# Altium integrated library Diode - TVS.IntLib: 371 symbols (part 6 of 6)
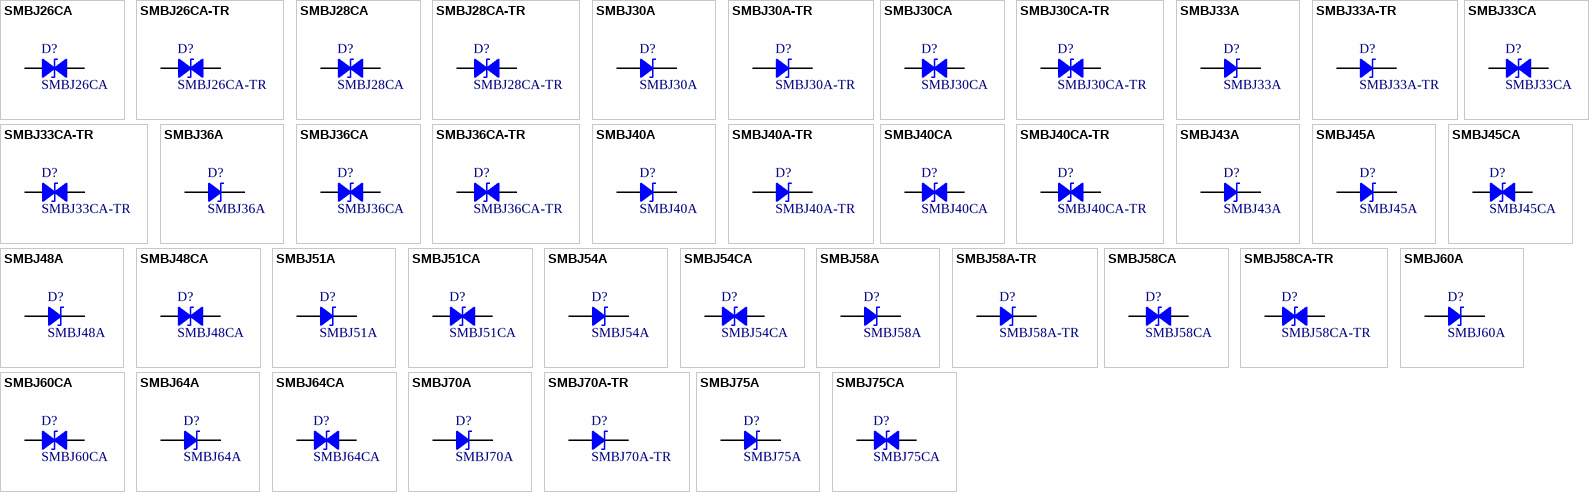
[diagram p14: symbols SMBJ26CA to SMBJ75CA]

## SMBJ58A
designator D?
TVS DIODE 58VWM 93.6VC DO214AA; Manufacturer: Bourns Inc.; Type: Zener; Unidirectional Channels: 1; Power - Peak Pulse: 600W; Current - Peak Pulse: 6.5A; Voltage (Clamping): 93.6V; Voltage (Breakdown): 64.4V; Voltage (Reverse Standoff): 58V; Part Number: SMBJ58A; PartId: 14760; Supplier 1: Digi-Key; Supplier Part Number 1: SMBJ58ABTR-ND; ComponentLink1Description: Datasheet; ComponentLink1URL: http://www.bourns.com/docs/Product-Datasheets/SMBJ.pdf; ComponentLink2Description: Digi-Key Listing; ComponentLink2URL: https://www.digikey.com/product-detail/en/bourns-inc/SMBJ58A/SMBJ58ABTR-ND/2254603; Operating Temperature: -55C ~ 150C (TJ); Price: 0.1001; Device Package: DO-214AA, SMB
footprint BOURNS DO214AA SMB
pins: 1, 2

## SMBJ58A-TR
designator D?
TVS DIODE 58VWM 121VC SMB; Manufacturer: STMicroelectronics; Type: Zener; Unidirectional Channels: 1; Power - Peak Pulse: 600W; Current - Peak Pulse: 33A (8/20us); Voltage (Clamping): 121V; Voltage (Breakdown): 64.4V; Voltage (Reverse Standoff): 58V; Part Number: SMBJ58A-TR; PartId: 14646; Supplier 1: Digi-Key; Supplier Part Number 1: 497-15659-2-ND; ComponentLink1Description: Datasheet; ComponentLink1URL: http://www2.st.com/content/ccc/resource/technical/document/datasheet/19/78/91/39/07/cd/40/65/CD00001366.pdf/files/CD00001366.pdf/_jcr_content/translations/en.CD00001366.pdf; ComponentLink2Description: Digi-Key Listing; ComponentLink2URL: https://www.digikey.com/product-detail/en/stmicroelectronics/SMBJ58A-TR/497-15659-2-ND/1039146; Operating Temperature: -55C ~ 150C (TJ); Price: 0.09; Device Package: DO-214AA, SMB
footprint ST DO214AA SMB
pins: 1, 2

## SMBJ58CA
designator D?
TVS DIODE 58VWM 93.6VC DO214AA; Manufacturer: Bourns Inc.; Type: Zener; Bidirectional Channels: 1; Power - Peak Pulse: 600W; Current - Peak Pulse: 6.5A; Voltage (Clamping): 93.6V; Voltage (Breakdown): 64.4V; Voltage (Reverse Standoff): 58V; Part Number: SMBJ58CA; PartId: 14736; Supplier 1: Digi-Key; Supplier Part Number 1: SMBJ58CABTR-ND; ComponentLink1Description: Datasheet; ComponentLink1URL: http://www.bourns.com/docs/Product-Datasheets/SMBJ.pdf; ComponentLink2Description: Digi-Key Listing; ComponentLink2URL: https://www.digikey.com/product-detail/en/bourns-inc/SMBJ58CA/SMBJ58CABTR-ND/2254595; Operating Temperature: -55C ~ 150C (TJ); Price: 0.1091; Device Package: DO-214AA, SMB
footprint BOURNS DO214AA SMB
pins: 1, 2

## SMBJ58CA-TR
designator D?
TVS DIODE 58VWM 121VC DO214AA; Manufacturer: STMicroelectronics; Type: Zener; Bidirectional Channels: 1; Power - Peak Pulse: 600W; Current - Peak Pulse: 33A (8/20us); Voltage (Clamping): 121V; Voltage (Breakdown): 64.4V; Voltage (Reverse Standoff): 58V; Part Number: SMBJ58CA-TR; PartId: 14661; Supplier 1: Digi-Key; Supplier Part Number 1: 497-3143-2-ND; ComponentLink1Description: Datasheet; ComponentLink1URL: http://www2.st.com/content/ccc/resource/technical/document/datasheet/19/78/91/39/07/cd/40/65/CD00001366.pdf/files/CD00001366.pdf/_jcr_content/translations/en.CD00001366.pdf; ComponentLink2Description: Digi-Key Listing; ComponentLink2URL: https://www.digikey.com/product-detail/en/stmicroelectronics/SMBJ58CA-TR/497-3143-2-ND/654461; Operating Temperature: -55C ~ 150C (TJ); Price: 0.0954; Device Package: DO-214AA, SMB
footprint ST DO214AA SMB
pins: 1, 2

## SMBJ60A
designator D?
TVS DIODE 60VWM 96.8VC DO214AA; Manufacturer: Bourns Inc.; Type: Zener; Unidirectional Channels: 1; Power - Peak Pulse: 600W; Current - Peak Pulse: 6.2A; Voltage (Clamping): 96.8V; Voltage (Breakdown): 66.7V; Voltage (Reverse Standoff): 60V; Part Number: SMBJ60A; PartId: 14772; Supplier 1: Digi-Key; Supplier Part Number 1: SMBJ60ABTR-ND; ComponentLink1Description: Datasheet; ComponentLink1URL: http://www.bourns.com/docs/Product-Datasheets/SMBJ.pdf; ComponentLink2Description: Digi-Key Listing; ComponentLink2URL: https://www.digikey.com/product-detail/en/bourns-inc/SMBJ60A/SMBJ60ABTR-ND/2254725; Operating Temperature: -55C ~ 150C (TJ); Price: 0.1001; Device Package: DO-214AA, SMB
footprint BOURNS DO214AA SMB
pins: 1, 2

## SMBJ60CA
designator D?
TVS DIODE 60VWM 96.8VC DO214AA; Manufacturer: Bourns Inc.; Type: Zener; Bidirectional Channels: 1; Power - Peak Pulse: 600W; Current - Peak Pulse: 6.2A; Voltage (Clamping): 96.8V; Voltage (Breakdown): 66.7V; Voltage (Reverse Standoff): 60V; Part Number: SMBJ60CA; PartId: 14738; Supplier 1: Digi-Key; Supplier Part Number 1: SMBJ60CABTR-ND; ComponentLink1Description: Datasheet; ComponentLink1URL: http://www.bourns.com/docs/Product-Datasheets/SMBJ.pdf; ComponentLink2Description: Digi-Key Listing; ComponentLink2URL: https://www.digikey.com/product-detail/en/bourns-inc/SMBJ60CA/SMBJ60CABTR-ND/2254539; Operating Temperature: -55C ~ 150C (TJ); Price: 0.1091; Device Package: DO-214AA, SMB
footprint BOURNS DO214AA SMB
pins: 1, 2

## SMBJ64A
designator D?
TVS DIODE 64VWM 103VC DO214AA; Manufacturer: Bourns Inc.; Type: Zener; Unidirectional Channels: 1; Power - Peak Pulse: 600W; Current - Peak Pulse: 5.9A; Voltage (Clamping): 103V; Voltage (Breakdown): 71.1V; Voltage (Reverse Standoff): 64V; Part Number: SMBJ64A; PartId: 14782; Supplier 1: Digi-Key; Supplier Part Number 1: SMBJ64ABTR-ND; ComponentLink1Description: Datasheet; ComponentLink1URL: http://www.bourns.com/docs/Product-Datasheets/SMBJ.pdf; ComponentLink2Description: Digi-Key Listing; ComponentLink2URL: https://www.digikey.com/product-detail/en/bourns-inc/SMBJ64A/SMBJ64ABTR-ND/2254590; Operating Temperature: -55C ~ 150C (TJ); Price: 0.1001; Device Package: DO-214AA, SMB
footprint BOURNS DO214AA SMB
pins: 1, 2

## SMBJ64CA
designator D?
TVS DIODE 64VWM 103VC DO214AA; Manufacturer: Bourns Inc.; Type: Zener; Bidirectional Channels: 1; Power - Peak Pulse: 600W; Current - Peak Pulse: 5.9A; Voltage (Clamping): 103V; Voltage (Breakdown): 71.1V; Voltage (Reverse Standoff): 64V; Part Number: SMBJ64CA; PartId: 14735; Supplier 1: Digi-Key; Supplier Part Number 1: SMBJ64CABTR-ND; ComponentLink1Description: Datasheet; ComponentLink1URL: http://www.bourns.com/docs/Product-Datasheets/SMBJ.pdf; ComponentLink2Description: Digi-Key Listing; ComponentLink2URL: https://www.digikey.com/product-detail/en/bourns-inc/SMBJ64CA/SMBJ64CABTR-ND/2254583; Operating Temperature: -55C ~ 150C (TJ); Price: 0.1091; Device Package: DO-214AA, SMB
footprint BOURNS DO214AA SMB
pins: 1, 2

## SMBJ70A
designator D?
TVS DIODE 70VWM 113VC DO214AA; Manufacturer: Bourns Inc.; Type: Zener; Unidirectional Channels: 1; Power - Peak Pulse: 600W; Current - Peak Pulse: 5.3A; Voltage (Clamping): 113V; Voltage (Breakdown): 77.8V; Voltage (Reverse Standoff): 70V; Part Number: SMBJ70A; PartId: 14779; Supplier 1: Digi-Key; Supplier Part Number 1: SMBJ70ABTR-ND; ComponentLink1Description: Datasheet; ComponentLink1URL: http://www.bourns.com/docs/Product-Datasheets/SMBJ.pdf; ComponentLink2Description: Digi-Key Listing; ComponentLink2URL: https://www.digikey.com/product-detail/en/bourns-inc/SMBJ70A/SMBJ70ABTR-ND/2254582; Operating Temperature: -55C ~ 150C (TJ); Price: 0.1001; Device Package: DO-214AA, SMB
footprint BOURNS DO214AA SMB
pins: 1, 2

## SMBJ70A-TR
designator D?
TVS DIODE 70VWM 146VC SMB; Manufacturer: STMicroelectronics; Type: Zener; Unidirectional Channels: 1; Power - Peak Pulse: 600W; Current - Peak Pulse: 27A (8/20us); Voltage (Clamping): 146V; Voltage (Breakdown): 77.8V; Voltage (Reverse Standoff): 70V; Part Number: SMBJ70A-TR; PartId: 14638; Supplier 1: Digi-Key; Supplier Part Number 1: 497-4294-2-ND; ComponentLink1Description: Datasheet; ComponentLink1URL: http://www2.st.com/content/ccc/resource/technical/document/datasheet/19/78/91/39/07/cd/40/65/CD00001366.pdf/files/CD00001366.pdf/_jcr_content/translations/en.CD00001366.pdf; ComponentLink2Description: Digi-Key Listing; ComponentLink2URL: https://www.digikey.com/product-detail/en/stmicroelectronics/SMBJ70A-TR/497-4294-2-ND/725134; Operating Temperature: -55C ~ 150C (TJ); Price: 0.0918; Device Package: DO-214AA, SMB
footprint ST DO214AA SMB
pins: 1, 2

## SMBJ75A
designator D?
TVS DIODE 75VWM 121VC DO214AA; Manufacturer: Bourns Inc.; Type: Zener; Unidirectional Channels: 1; Power - Peak Pulse: 600W; Current - Peak Pulse: 5A; Voltage (Clamping): 121V; Voltage (Breakdown): 83.3V; Voltage (Reverse Standoff): 75V; Part Number: SMBJ75A; PartId: 14777; Supplier 1: Digi-Key; Supplier Part Number 1: SMBJ75ABTR-ND; ComponentLink1Description: Datasheet; ComponentLink1URL: http://www.bourns.com/docs/Product-Datasheets/SMBJ.pdf; ComponentLink2Description: Digi-Key Listing; ComponentLink2URL: https://www.digikey.com/product-detail/en/bourns-inc/SMBJ75A/SMBJ75ABTR-ND/2254574; Operating Temperature: -55C ~ 150C (TJ); Price: 0.1001; Device Package: DO-214AA, SMB
footprint BOURNS DO214AA SMB
pins: 1, 2

## SMBJ75CA
designator D?
TVS DIODE 75VWM 121VC DO214AA; Manufacturer: Bourns Inc.; Type: Zener; Bidirectional Channels: 1; Power - Peak Pulse: 600W; Current - Peak Pulse: 5A; Voltage (Clamping): 121V; Voltage (Breakdown): 83.3V; Voltage (Reverse Standoff): 75V; Part Number: SMBJ75CA; PartId: 14746; Supplier 1: Digi-Key; Supplier Part Number 1: SMBJ75CABTR-ND; ComponentLink1Description: Datasheet; ComponentLink1URL: http://www.bourns.com/docs/Product-Datasheets/SMBJ.pdf; ComponentLink2Description: Digi-Key Listing; ComponentLink2URL: https://www.digikey.com/product-detail/en/bourns-inc/SMBJ75CA/SMBJ75CABTR-ND/2254577; Operating Temperature: -55C ~ 150C (TJ); Price: 0.1091; Device Package: DO-214AA, SMB
footprint BOURNS DO214AA SMB
pins: 1, 2

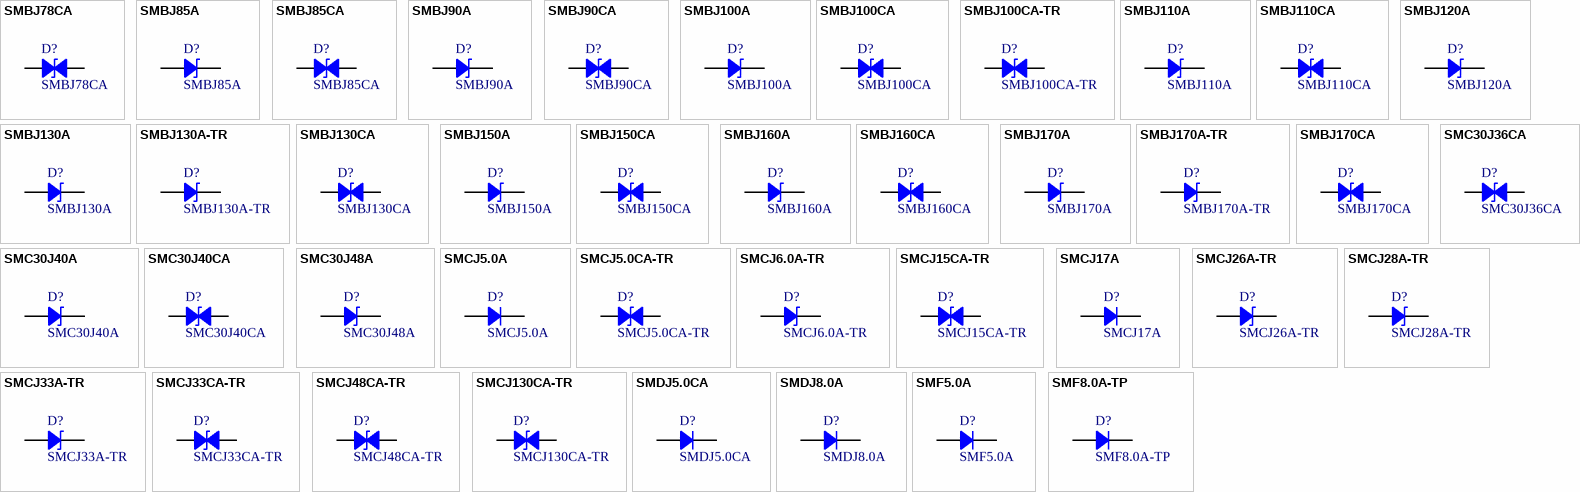
[diagram p8: symbols SMBJ78CA to SMF8.0A-TP]

## SMBJ78CA
designator D?
TVS DIODE 78VWM 126VC DO214AA; Manufacturer: Bourns Inc.; Type: Zener; Bidirectional Channels: 1; Power - Peak Pulse: 600W; Current - Peak Pulse: 4.8A; Voltage (Clamping): 126V; Voltage (Breakdown): 86.7V; Voltage (Reverse Standoff): 78V; Part Number: SMBJ78CA; PartId: 14725; Supplier 1: Digi-Key; Supplier Part Number 1: SMBJ78CABTR-ND; ComponentLink1Description: Datasheet; ComponentLink1URL: http://www.bourns.com/docs/Product-Datasheets/SMBJ.pdf; ComponentLink2Description: Digi-Key Listing; ComponentLink2URL: https://www.digikey.com/product-detail/en/bourns-inc/SMBJ78CA/SMBJ78CABTR-ND/2254578; Operating Temperature: -55C ~ 150C (TJ); Price: 0.1091; Device Package: DO-214AA, SMB
footprint BOURNS DO214AA SMB
pins: 1, 2

## SMBJ85A
designator D?
TVS DIODE 85VWM 137VC DO214AA; Manufacturer: Bourns Inc.; Type: Zener; Unidirectional Channels: 1; Power - Peak Pulse: 600W; Current - Peak Pulse: 4.4A; Voltage (Clamping): 137V; Voltage (Breakdown): 94.4V; Voltage (Reverse Standoff): 85V; Part Number: SMBJ85A; PartId: 14780; Supplier 1: Digi-Key; Supplier Part Number 1: SMBJ85ABTR-ND; ComponentLink1Description: Datasheet; ComponentLink1URL: http://www.bourns.com/docs/Product-Datasheets/SMBJ.pdf; ComponentLink2Description: Digi-Key Listing; ComponentLink2URL: https://www.digikey.com/product-detail/en/bourns-inc/SMBJ85A/SMBJ85ABTR-ND/2254570; Operating Temperature: -55C ~ 150C (TJ); Price: 0.1001; Device Package: DO-214AA, SMB
footprint BOURNS DO214AA SMB
pins: 1, 2

## SMBJ85CA
designator D?
TVS DIODE 85VWM 137VC DO214AA; Manufacturer: Bourns Inc.; Type: Zener; Bidirectional Channels: 1; Power - Peak Pulse: 600W; Current - Peak Pulse: 4.4A; Voltage (Clamping): 137V; Voltage (Breakdown): 94.4V; Voltage (Reverse Standoff): 85V; Part Number: SMBJ85CA; PartId: 14716; Supplier 1: Digi-Key; Supplier Part Number 1: SMBJ85CABTR-ND; ComponentLink1Description: Datasheet; ComponentLink1URL: http://www.bourns.com/docs/Product-Datasheets/SMBJ.pdf; ComponentLink2Description: Digi-Key Listing; ComponentLink2URL: https://www.digikey.com/product-detail/en/bourns-inc/SMBJ85CA/SMBJ85CABTR-ND/2254566; Operating Temperature: -55C ~ 150C (TJ); Price: 0.1091; Device Package: DO-214AA, SMB
footprint BOURNS DO214AA SMB
pins: 1, 2

## SMBJ90A
designator D?
TVS DIODE 90VWM 146VC DO214AA; Manufacturer: Bourns Inc.; Type: Zener; Unidirectional Channels: 1; Power - Peak Pulse: 600W; Current - Peak Pulse: 4.1A; Voltage (Clamping): 146V; Voltage (Breakdown): 100V; Voltage (Reverse Standoff): 90V; Part Number: SMBJ90A; PartId: 14778; Supplier 1: Digi-Key; Supplier Part Number 1: SMBJ90ABTR-ND; ComponentLink1Description: Datasheet; ComponentLink1URL: http://www.bourns.com/docs/Product-Datasheets/SMBJ.pdf; ComponentLink2Description: Digi-Key Listing; ComponentLink2URL: https://www.digikey.com/product-detail/en/bourns-inc/SMBJ90A/SMBJ90ABTR-ND/2254703; Operating Temperature: -55C ~ 150C (TJ); Price: 0.1001; Device Package: DO-214AA, SMB
footprint BOURNS DO214AA SMB
pins: 1, 2

## SMBJ90CA
designator D?
TVS DIODE 90VWM 146VC DO214AA; Manufacturer: Bourns Inc.; Type: Zener; Bidirectional Channels: 1; Power - Peak Pulse: 600W; Current - Peak Pulse: 4.1A; Voltage (Clamping): 146V; Voltage (Breakdown): 100V; Voltage (Reverse Standoff): 90V; Part Number: SMBJ90CA; PartId: 14734; Supplier 1: Digi-Key; Supplier Part Number 1: SMBJ90CABTR-ND; ComponentLink1Description: Datasheet; ComponentLink1URL: http://www.bourns.com/docs/Product-Datasheets/SMBJ.pdf; ComponentLink2Description: Digi-Key Listing; ComponentLink2URL: https://www.digikey.com/product-detail/en/bourns-inc/SMBJ90CA/SMBJ90CABTR-ND/2254565; Operating Temperature: -55C ~ 150C (TJ); Price: 0.1091; Device Package: DO-214AA, SMB
footprint BOURNS DO214AA SMB
pins: 1, 2

## SMBJ100A
designator D?
TVS DIODE 100VWM 162VC DO214AA; Manufacturer: Bourns Inc.; Type: Zener; Unidirectional Channels: 1; Power - Peak Pulse: 600W; Current - Peak Pulse: 3.7A; Voltage (Clamping): 162V; Voltage (Breakdown): 111V; Voltage (Reverse Standoff): 100V; Part Number: SMBJ100A; PartId: 14784; Supplier 1: Digi-Key; Supplier Part Number 1: SMBJ100ABTR-ND; ComponentLink1Description: Datasheet; ComponentLink1URL: http://www.bourns.com/docs/Product-Datasheets/SMBJ.pdf; ComponentLink2Description: Digi-Key Listing; ComponentLink2URL: https://www.digikey.com/product-detail/en/bourns-inc/SMBJ100A/SMBJ100ABTR-ND/2254557; Operating Temperature: -55C ~ 150C (TJ); Price: 0.1039; Device Package: DO-214AA, SMB
footprint BOURNS DO214AA SMB
pins: 1, 2

## SMBJ100CA
designator D?
TVS DIODE 100VWM 162VC DO214AA; Manufacturer: Bourns Inc.; Type: Zener; Bidirectional Channels: 1; Power - Peak Pulse: 600W; Current - Peak Pulse: 3.7A; Voltage (Clamping): 162V; Voltage (Breakdown): 111V; Voltage (Reverse Standoff): 100V; Part Number: SMBJ100CA; PartId: 14721; Supplier 1: Digi-Key; Supplier Part Number 1: SMBJ100CABTR-ND; ComponentLink1Description: Datasheet; ComponentLink1URL: http://www.bourns.com/docs/Product-Datasheets/SMBJ.pdf; ComponentLink2Description: Digi-Key Listing; ComponentLink2URL: https://www.digikey.com/product-detail/en/bourns-inc/SMBJ100CA/SMBJ100CABTR-ND/2254556; Operating Temperature: -55C ~ 150C (TJ); Price: 0.1126; Device Package: DO-214AA, SMB
footprint BOURNS DO214AA SMB
pins: 1, 2

## SMBJ100CA-TR
designator D?
TVS DIODE 100VWM 212VC SMB; Manufacturer: STMicroelectronics; Type: Zener; Bidirectional Channels: 1; Power - Peak Pulse: 600W; Current - Peak Pulse: 19A (8/20us); Voltage (Clamping): 212V; Voltage (Breakdown): 111V; Voltage (Reverse Standoff): 100V; Part Number: SMBJ100CA-TR; PartId: 14684; Supplier 1: Digi-Key; Supplier Part Number 1: 497-14168-2-ND; ComponentLink1Description: Datasheet; ComponentLink1URL: http://www2.st.com/content/ccc/resource/technical/document/datasheet/19/78/91/39/07/cd/40/65/CD00001366.pdf/files/CD00001366.pdf/_jcr_content/translations/en.CD00001366.pdf; ComponentLink2Description: Digi-Key Listing; ComponentLink2URL: https://www.digikey.com/product-detail/en/stmicroelectronics/SMBJ100CA-TR/497-14168-2-ND/3945976; Operating Temperature: -55C ~ 150C (TJ); Price: 0.1221; Device Package: DO-214AA, SMB
footprint ST DO214AA SMB
pins: 1, 2

## SMBJ110A
designator D?
TVS DIODE 110VWM 177VC DO214AA; Manufacturer: Bourns Inc.; Type: Zener; Unidirectional Channels: 1; Power - Peak Pulse: 600W; Current - Peak Pulse: 3.4A; Voltage (Clamping): 177V; Voltage (Breakdown): 122V; Voltage (Reverse Standoff): 110V; Part Number: SMBJ110A; PartId: 14776; Supplier 1: Digi-Key; Supplier Part Number 1: SMBJ110ABTR-ND; ComponentLink1Description: Datasheet; ComponentLink1URL: http://www.bourns.com/docs/Product-Datasheets/SMBJ.pdf; ComponentLink2Description: Digi-Key Listing; ComponentLink2URL: https://www.digikey.com/product-detail/en/bourns-inc/SMBJ110A/SMBJ110ABTR-ND/2254634; Operating Temperature: -55C ~ 150C (TJ); Price: 0.1039; Device Package: DO-214AA, SMB
footprint BOURNS DO214AA SMB
pins: 1, 2

## SMBJ110CA
designator D?
TVS DIODE 110VWM 177VC DO214AA; Manufacturer: Bourns Inc.; Type: Zener; Bidirectional Channels: 1; Power - Peak Pulse: 600W; Current - Peak Pulse: 3.4A; Voltage (Clamping): 177V; Voltage (Breakdown): 122V; Voltage (Reverse Standoff): 110V; Part Number: SMBJ110CA; PartId: 14740; Supplier 1: Digi-Key; Supplier Part Number 1: SMBJ110CABTR-ND; ComponentLink1Description: Datasheet; ComponentLink1URL: http://www.bourns.com/docs/Product-Datasheets/SMBJ.pdf; ComponentLink2Description: Digi-Key Listing; ComponentLink2URL: https://www.digikey.com/product-detail/en/bourns-inc/SMBJ110CA/SMBJ110CABTR-ND/2254631; Operating Temperature: -55C ~ 150C (TJ); Price: 0.1126; Device Package: DO-214AA, SMB
footprint BOURNS DO214AA SMB
pins: 1, 2

## SMBJ120A
designator D?
TVS DIODE 120VWM 193VC DO214AA; Manufacturer: Bourns Inc.; Type: Zener; Unidirectional Channels: 1; Power - Peak Pulse: 600W; Current - Peak Pulse: 3.1A; Voltage (Clamping): 193V; Voltage (Breakdown): 133V; Voltage (Reverse Standoff): 120V; Part Number: SMBJ120A; PartId: 14787; Supplier 1: Digi-Key; Supplier Part Number 1: SMBJ120ABTR-ND; ComponentLink1Description: Datasheet; ComponentLink1URL: http://www.bourns.com/docs/Product-Datasheets/SMBJ.pdf; ComponentLink2Description: Digi-Key Listing; ComponentLink2URL: https://www.digikey.com/product-detail/en/bourns-inc/SMBJ120A/SMBJ120ABTR-ND/2254633; Operating Temperature: -55C ~ 150C (TJ); Price: 0.1039; Device Package: DO-214AA, SMB
footprint BOURNS DO214AA SMB
pins: 1, 2

## SMBJ130A
designator D?
TVS DIODE 130VWM 209VC DO214AA; Manufacturer: Bourns Inc.; Type: Zener; Unidirectional Channels: 1; Power - Peak Pulse: 600W; Current - Peak Pulse: 2.9A; Voltage (Clamping): 209V; Voltage (Breakdown): 144V; Voltage (Reverse Standoff): 130V; Part Number: SMBJ130A; PartId: 14786; Supplier 1: Digi-Key; Supplier Part Number 1: SMBJ130ABTR-ND; ComponentLink1Description: Datasheet; ComponentLink1URL: http://www.bourns.com/docs/Product-Datasheets/SMBJ.pdf; ComponentLink2Description: Digi-Key Listing; ComponentLink2URL: https://www.digikey.com/product-detail/en/bourns-inc/SMBJ130A/SMBJ130ABTR-ND/2254625; Operating Temperature: -55C ~ 150C (TJ); Price: 0.1039; Device Package: DO-214AA, SMB
footprint BOURNS DO214AA SMB
pins: 1, 2

## SMBJ130A-TR
designator D?
TVS DIODE 130VWM 265VC SMB; Manufacturer: STMicroelectronics; Type: Zener; Unidirectional Channels: 1; Power - Peak Pulse: 600W; Current - Peak Pulse: 15A (8/20us); Voltage (Clamping): 265V; Voltage (Breakdown): 144V; Voltage (Reverse Standoff): 130V; Part Number: SMBJ130A-TR; PartId: 14649; Supplier 1: Digi-Key; Supplier Part Number 1: 497-12526-2-ND; ComponentLink1Description: Datasheet; ComponentLink1URL: http://www2.st.com/content/ccc/resource/technical/document/datasheet/19/78/91/39/07/cd/40/65/CD00001366.pdf/files/CD00001366.pdf/_jcr_content/translations/en.CD00001366.pdf; ComponentLink2Description: Digi-Key Listing; ComponentLink2URL: https://www.digikey.com/product-detail/en/stmicroelectronics/SMBJ130A-TR/497-12526-2-ND/1039129; Operating Temperature: -55C ~ 150C (TJ); Price: 0.099; Device Package: DO-214AA, SMB
footprint ST DO214AA SMB
pins: 1, 2

## SMBJ130CA
designator D?
TVS DIODE 130VWM 209VC DO214AA; Manufacturer: Bourns Inc.; Type: Zener; Bidirectional Channels: 1; Power - Peak Pulse: 600W; Current - Peak Pulse: 2.9A; Voltage (Clamping): 209V; Voltage (Breakdown): 144V; Voltage (Reverse Standoff): 130V; Part Number: SMBJ130CA; PartId: 14713; Supplier 1: Digi-Key; Supplier Part Number 1: SMBJ130CABTR-ND; ComponentLink1Description: Datasheet; ComponentLink1URL: http://www.bourns.com/docs/Product-Datasheets/SMBJ.pdf; ComponentLink2Description: Digi-Key Listing; ComponentLink2URL: https://www.digikey.com/product-detail/en/bourns-inc/SMBJ130CA/SMBJ130CABTR-ND/2254722; Operating Temperature: -55C ~ 150C (TJ); Price: 0.1126; Device Package: DO-214AA, SMB
footprint BOURNS DO214AA SMB
pins: 1, 2

## SMBJ150A
designator D?
TVS DIODE 150VWM 243VC DO214AA; Manufacturer: Bourns Inc.; Type: Zener; Unidirectional Channels: 1; Power - Peak Pulse: 600W; Current - Peak Pulse: 2.5A; Voltage (Clamping): 243V; Voltage (Breakdown): 167V; Voltage (Reverse Standoff): 150V; Part Number: SMBJ150A; PartId: 14762; Supplier 1: Digi-Key; Supplier Part Number 1: SMBJ150ABTR-ND; ComponentLink1Description: Datasheet; ComponentLink1URL: http://www.bourns.com/docs/Product-Datasheets/SMBJ.pdf; ComponentLink2Description: Digi-Key Listing; ComponentLink2URL: https://www.digikey.com/product-detail/en/bourns-inc/SMBJ150A/SMBJ150ABTR-ND/2254611; Operating Temperature: -55C ~ 150C (TJ); Price: 0.1039; Device Package: DO-214AA, SMB
footprint BOURNS DO214AA SMB
pins: 1, 2

## SMBJ150CA
designator D?
TVS DIODE 150VWM 243VC DO214AA; Manufacturer: Bourns Inc.; Type: Zener; Bidirectional Channels: 1; Power - Peak Pulse: 600W; Current - Peak Pulse: 2.5A; Voltage (Clamping): 243V; Voltage (Breakdown): 167V; Voltage (Reverse Standoff): 150V; Part Number: SMBJ150CA; PartId: 14715; Supplier 1: Digi-Key; Supplier Part Number 1: SMBJ150CABTR-ND; ComponentLink1Description: Datasheet; ComponentLink1URL: http://www.bourns.com/docs/Product-Datasheets/SMBJ.pdf; ComponentLink2Description: Digi-Key Listing; ComponentLink2URL: https://www.digikey.com/product-detail/en/bourns-inc/SMBJ150CA/SMBJ150CABTR-ND/2254674; Operating Temperature: -55C ~ 150C (TJ); Price: 0.1126; Device Package: DO-214AA, SMB
footprint BOURNS DO214AA SMB
pins: 1, 2

## SMBJ160A
designator D?
TVS DIODE 160VWM 259VC DO214AA; Manufacturer: Bourns Inc.; Type: Zener; Unidirectional Channels: 1; Power - Peak Pulse: 600W; Current - Peak Pulse: 2.3A; Voltage (Clamping): 259V; Voltage (Breakdown): 178V; Voltage (Reverse Standoff): 160V; Part Number: SMBJ160A; PartId: 14785; Supplier 1: Digi-Key; Supplier Part Number 1: SMBJ160ABTR-ND; ComponentLink1Description: Datasheet; ComponentLink1URL: http://www.bourns.com/docs/Product-Datasheets/SMBJ.pdf; ComponentLink2Description: Digi-Key Listing; ComponentLink2URL: https://www.digikey.com/product-detail/en/bourns-inc/SMBJ160A/SMBJ160ABTR-ND/2254608; Operating Temperature: -55C ~ 150C (TJ); Price: 0.1039; Device Package: DO-214AA, SMB
footprint BOURNS DO214AA SMB
pins: 1, 2

## SMBJ160CA
designator D?
TVS DIODE 160VWM 259VC DO214AA; Manufacturer: Bourns Inc.; Type: Zener; Bidirectional Channels: 1; Power - Peak Pulse: 600W; Current - Peak Pulse: 2.3A; Voltage (Clamping): 259V; Voltage (Breakdown): 178V; Voltage (Reverse Standoff): 160V; Part Number: SMBJ160CA; PartId: 14723; Supplier 1: Digi-Key; Supplier Part Number 1: SMBJ160CABTR-ND; ComponentLink1Description: Datasheet; ComponentLink1URL: http://www.bourns.com/docs/Product-Datasheets/SMBJ.pdf; ComponentLink2Description: Digi-Key Listing; ComponentLink2URL: https://www.digikey.com/product-detail/en/bourns-inc/SMBJ160CA/SMBJ160CABTR-ND/2254642; Operating Temperature: -55C ~ 150C (TJ); Price: 0.1126; Device Package: DO-214AA, SMB
footprint BOURNS DO214AA SMB
pins: 1, 2

## SMBJ170A
designator D?
TVS DIODE 170VWM 275VC DO214AA; Manufacturer: Bourns Inc.; Type: Zener; Unidirectional Channels: 1; Power - Peak Pulse: 600W; Current - Peak Pulse: 2.2A; Voltage (Clamping): 275V; Voltage (Breakdown): 189V; Voltage (Reverse Standoff): 170V; Part Number: SMBJ170A; PartId: 14783; Supplier 1: Digi-Key; Supplier Part Number 1: SMBJ170ABTR-ND; ComponentLink1Description: Datasheet; ComponentLink1URL: http://www.bourns.com/docs/Product-Datasheets/SMBJ.pdf; ComponentLink2Description: Digi-Key Listing; ComponentLink2URL: https://www.digikey.com/product-detail/en/bourns-inc/SMBJ170A/SMBJ170ABTR-ND/2254601; Operating Temperature: -55C ~ 150C (TJ); Price: 0.1039; Device Package: DO-214AA, SMB
footprint BOURNS DO214AA SMB
pins: 1, 2

## SMBJ170A-TR
designator D?
TVS DIODE 170VWM 353VC SMB; Manufacturer: STMicroelectronics; Type: Zener; Unidirectional Channels: 1; Power - Peak Pulse: 600W; Current - Peak Pulse: 11.3A (8/20us); Voltage (Clamping): 353V; Voltage (Breakdown): 189V; Voltage (Reverse Standoff): 170V; Part Number: SMBJ170A-TR; PartId: 14639; Supplier 1: Digi-Key; Supplier Part Number 1: 497-6511-2-ND; ComponentLink1Description: Datasheet; ComponentLink1URL: http://www2.st.com/content/ccc/resource/technical/document/datasheet/19/78/91/39/07/cd/40/65/CD00001366.pdf/files/CD00001366.pdf/_jcr_content/translations/en.CD00001366.pdf; ComponentLink2Description: Digi-Key Listing; ComponentLink2URL: https://www.digikey.com/product-detail/en/stmicroelectronics/SMBJ170A-TR/497-6511-2-ND/1039132; Operating Temperature: -55C ~ 150C (TJ); Price: 0.099; Device Package: DO-214AA, SMB
footprint ST DO214AA SMB
pins: 1, 2

## SMBJ170CA
designator D?
TVS DIODE 170VWM 275VC DO214AA; Manufacturer: Bourns Inc.; Type: Zener; Bidirectional Channels: 1; Power - Peak Pulse: 600W; Current - Peak Pulse: 2.2A; Voltage (Clamping): 275V; Voltage (Breakdown): 189V; Voltage (Reverse Standoff): 170V; Part Number: SMBJ170CA; PartId: 14733; Supplier 1: Digi-Key; Supplier Part Number 1: SMBJ170CABTR-ND; ComponentLink1Description: Datasheet; ComponentLink1URL: http://www.bourns.com/docs/Product-Datasheets/SMBJ.pdf; ComponentLink2Description: Digi-Key Listing; ComponentLink2URL: https://www.digikey.com/product-detail/en/bourns-inc/SMBJ170CA/SMBJ170CABTR-ND/2254599; Operating Temperature: -55C ~ 150C (TJ); Price: 0.1126; Device Package: DO-214AA, SMB
footprint BOURNS DO214AA SMB
pins: 1, 2

## SMC30J36CA
designator D?
TVS DIODE 36VWM 58.1VC DO214AB; Manufacturer: STMicroelectronics; Type: Zener; Bidirectional Channels: 1; Power - Peak Pulse: 3000W (3kW); Current - Peak Pulse: 48.41A; Voltage (Clamping): 58.1V; Voltage (Breakdown): 40V; Voltage (Reverse Standoff): 36V; Part Number: SMC30J36CA; PartId: 14830; Supplier 1: Digi-Key; Supplier Part Number 1: 497-16098-2-ND; ComponentLink1Description: Datasheet; ComponentLink1URL: http://www.st.com/web/en/resource/technical/document/datasheet/DM00035134.pdf; ComponentLink2Description: Digi-Key Listing; ComponentLink2URL: https://www.digikey.com/product-detail/en/stmicroelectronics/SMC30J36CA/497-16098-2-ND/5719713; Operating Temperature: -55C ~ 175C (TJ); Price: 0.4256; Device Package: DO-214AB, SMC
footprint ST DO214AB SMC
pins: 1, 2

## SMC30J40A
designator D?
TVS DIODE 40VWM 64.5VC DO214AB; Manufacturer: STMicroelectronics; Type: Zener; Unidirectional Channels: 1; Power - Peak Pulse: 3000W (3kW); Current - Peak Pulse: 43.5A; Voltage (Clamping): 64.5V; Voltage (Breakdown): 44.4V; Voltage (Reverse Standoff): 40V; Part Number: SMC30J40A; PartId: 14806; Supplier 1: Digi-Key; Supplier Part Number 1: 497-16100-2-ND; ComponentLink1Description: Datasheet; ComponentLink1URL: http://www.st.com/web/en/resource/technical/document/datasheet/DM00035134.pdf; ComponentLink2Description: Digi-Key Listing; ComponentLink2URL: https://www.digikey.com/product-detail/en/stmicroelectronics/SMC30J40A/497-16100-2-ND/5719714; Operating Temperature: -55C ~ 175C (TJ); Price: 0.4032; Device Package: DO-214AB, SMC
footprint ST DO214AB SMC
pins: 1, 2

## SMC30J40CA
designator D?
TVS DIODE 40VWM 64.5VC DO214AB; Manufacturer: STMicroelectronics; Type: Zener; Bidirectional Channels: 1; Power - Peak Pulse: 3000W (3kW); Current - Peak Pulse: 43.5A; Voltage (Clamping): 64.5V; Voltage (Breakdown): 44.4V; Voltage (Reverse Standoff): 40V; Part Number: SMC30J40CA; PartId: 14831; Supplier 1: Digi-Key; Supplier Part Number 1: 497-16102-2-ND; ComponentLink1Description: Datasheet; ComponentLink1URL: http://www.st.com/web/en/resource/technical/document/datasheet/DM00035134.pdf; ComponentLink2Description: Digi-Key Listing; ComponentLink2URL: https://www.digikey.com/product-detail/en/stmicroelectronics/SMC30J40CA/497-16102-2-ND/5719715; Operating Temperature: -55C ~ 175C (TJ); Price: 0.4256; Device Package: DO-214AB, SMC
footprint ST DO214AB SMC
pins: 1, 2

## SMC30J48A
designator D?
TVS DIODE 48VWM 76.6VC DO214AB; Manufacturer: STMicroelectronics; Type: Zener; Unidirectional Channels: 1; Power - Peak Pulse: 3000W (3kW); Current - Peak Pulse: 38A; Voltage (Clamping): 76.6V; Voltage (Breakdown): 53.2V; Voltage (Reverse Standoff): 48V; Part Number: SMC30J48A; PartId: 14807; Supplier 1: Digi-Key; Supplier Part Number 1: 497-16104-2-ND; ComponentLink1Description: Datasheet; ComponentLink1URL: http://www.st.com/web/en/resource/technical/document/datasheet/DM00035134.pdf; ComponentLink2Description: Digi-Key Listing; ComponentLink2URL: https://www.digikey.com/product-detail/en/stmicroelectronics/SMC30J48A/497-16104-2-ND/5719716; Operating Temperature: -55C ~ 175C (TJ); Price: 0.4032; Device Package: DO-214AB, SMC
footprint ST DO214AB SMC
pins: 1, 2

## SMCJ5.0A
designator D?
TVS DIODE 5VWM 9.2VC SMC; Manufacturer: Littelfuse Inc.; Type: Surface Mount; Power - Peak Pulse: 1500W (1.5kW); Current - Peak Pulse: 163A; Voltage (Clamping): 9.2V; Voltage (Breakdown): 6.4V; Voltage (Reverse Standoff): 5V; Part Number: SMCJ5.0A; PartId: 7762; Supplier 1: Digi-Key; Supplier Part Number 1: SMCJ5.0ALFTR-ND; ComponentLink1Description: Datasheet; ComponentLink1URL: http://www.littelfuse.com/products/tvs-diodes/surface-mount/~/media/electronics/datasheets/tvs_diodes/littelfuse_tvs_diode_smcj_datasheet.pdf.pdf; ComponentLink2Description: Digi-Key Listing; ComponentLink2URL: http://www.digikey.ca/product-detail/en/SMCJ5.0A/SMCJ5.0ALFTR-ND/762356; Operating Temperature: -55C ~ 150C (TJ); Price: 0.3022; Device Package: DO-214AB, SMC
footprint DO214AB SMC
pins: 1, 2

## SMCJ5.0CA-TR
designator D?
TVS DIODE 5VWM 13.4VC SMC; Manufacturer: STMicroelectronics; Type: Zener; Bidirectional Channels: 1; Power - Peak Pulse: 1500W (1.5kW); Current - Peak Pulse: 746A (8/20us); Voltage (Clamping): 13.4V; Voltage (Breakdown): 6.4V; Voltage (Reverse Standoff): 5V; Part Number: SMCJ5.0CA-TR; PartId: 14813; Supplier 1: Digi-Key; Supplier Part Number 1: 497-6524-2-ND; ComponentLink1Description: Datasheet; ComponentLink1URL: http://www.st.com/web/en/resource/technical/document/datasheet/CD00001367.pdf; ComponentLink2Description: Digi-Key Listing; ComponentLink2URL: https://www.digikey.com/product-detail/en/stmicroelectronics/SMCJ5.0CA-TR/497-6524-2-ND/1039169; Operating Temperature: -55C ~ 150C (TJ); Price: 0.1705; Device Package: DO-214AB, SMC
footprint ST DO214AB SMC
pins: 1, 2

## SMCJ6.0A-TR
designator D?
TVS DIODE 6VWM 13.7VC SMC; Manufacturer: STMicroelectronics; Type: Zener; Unidirectional Channels: 1; Power - Peak Pulse: 1500W (1.5kW); Current - Peak Pulse: 730A (8/20us); Voltage (Clamping): 13.7V; Voltage (Breakdown): 6.7V; Voltage (Reverse Standoff): 6V; Part Number: SMCJ6.0A-TR; PartId: 14790; Supplier 1: Digi-Key; Supplier Part Number 1: 497-4296-2-ND; ComponentLink1Description: Datasheet; ComponentLink1URL: http://www.st.com/web/en/resource/technical/document/datasheet/CD00001367.pdf; ComponentLink2Description: Digi-Key Listing; ComponentLink2URL: https://www.digikey.com/product-detail/en/stmicroelectronics/SMCJ6.0A-TR/497-4296-2-ND/725175; Operating Temperature: -55C ~ 150C (TJ); Price: 0.1519; Device Package: DO-214AB, SMC
footprint ST DO214AB SMC
pins: 1, 2

## SMCJ15CA-TR
designator D?
TVS DIODE 15VWM 32.5VC SMC; Manufacturer: STMicroelectronics; Type: Zener; Bidirectional Channels: 1; Power - Peak Pulse: 1500W (1.5kW); Current - Peak Pulse: 308A (8/20us); Voltage (Clamping): 32.5V; Voltage (Breakdown): 16.7V; Voltage (Reverse Standoff): 15V; Part Number: SMCJ15CA-TR; PartId: 14812; Supplier 1: Digi-Key; Supplier Part Number 1: 497-6518-2-ND; ComponentLink1Description: Datasheet; ComponentLink1URL: http://www.st.com/web/en/resource/technical/document/datasheet/CD00001367.pdf; ComponentLink2Description: Digi-Key Listing; ComponentLink2URL: https://www.digikey.com/product-detail/en/stmicroelectronics/SMCJ15CA-TR/497-6518-2-ND/1039156; Operating Temperature: -55C ~ 150C (TJ); Price: 0.1705; Device Package: DO-214AB, SMC
footprint ST DO214AB SMC
pins: 1, 2

## SMCJ17A
designator D?
TVS DIODE 17VWM 27.6VC SMC; Manufacturer: Littelfuse Inc.; Type: Surface Mount; Power - Peak Pulse: 1500W (1.5kW); Current - Peak Pulse: 54.4A; Voltage (Clamping): 27.6V; Voltage (Breakdown): 18.9V; Voltage (Reverse Standoff): 17V; Part Number: SMCJ17A; PartId: 7780; Supplier 1: Digi-Key; Supplier Part Number 1: SMCJ17ALFTR-ND; ComponentLink1Description: Datasheet; ComponentLink1URL: http://www.littelfuse.com/products/tvs-diodes/surface-mount/~/media/electronics/datasheets/tvs_diodes/littelfuse_tvs_diode_smcj_datasheet.pdf.pdf; ComponentLink2Description: Digi-Key Listing; ComponentLink2URL: http://www.digikey.ca/product-detail/en/SMCJ17A/SMCJ17ALFTR-ND/762386; Operating Temperature: -55C ~ 150C (TJ); Price: 0.3022; Device Package: DO-214AB, SMC
footprint DO214AB SMC
pins: 1, 2

## SMCJ26A-TR
designator D?
TVS DIODE 26VWM 53.5VC SMC; Manufacturer: STMicroelectronics; Type: Zener; Unidirectional Channels: 1; Power - Peak Pulse: 1500W (1.5kW); Current - Peak Pulse: 187A (8/20us); Voltage (Clamping): 53.5V; Voltage (Breakdown): 28.9V; Voltage (Reverse Standoff): 26V; Part Number: SMCJ26A-TR; PartId: 14791; Supplier 1: Digi-Key; Supplier Part Number 1: 497-6519-2-ND; ComponentLink1Description: Datasheet; ComponentLink1URL: http://www.st.com/web/en/resource/technical/document/datasheet/CD00001367.pdf; ComponentLink2Description: Digi-Key Listing; ComponentLink2URL: https://www.digikey.com/product-detail/en/stmicroelectronics/SMCJ26A-TR/497-6519-2-ND/1039160; Operating Temperature: -55C ~ 150C (TJ); Price: 0.1519; Device Package: DO-214AB, SMC
footprint ST DO214AB SMC
pins: 1, 2

## SMCJ28A-TR
designator D?
TVS DIODE 28VWM 59VC SMC; Manufacturer: STMicroelectronics; Type: Zener; Unidirectional Channels: 1; Power - Peak Pulse: 1500W (1.5kW); Current - Peak Pulse: 169A (8/20us); Voltage (Clamping): 59V; Voltage (Breakdown): 31.1V; Voltage (Reverse Standoff): 28V; Part Number: SMCJ28A-TR; PartId: 14792; Supplier 1: Digi-Key; Supplier Part Number 1: 497-15789-2-ND; ComponentLink1Description: Datasheet; ComponentLink1URL: http://www.st.com/web/en/resource/technical/document/datasheet/CD00001367.pdf; ComponentLink2Description: Digi-Key Listing; ComponentLink2URL: https://www.digikey.com/product-detail/en/stmicroelectronics/SMCJ28A-TR/497-15789-2-ND/1039161; Operating Temperature: -55C ~ 150C (TJ); Price: 0.1519; Device Package: DO-214AB, SMC
footprint ST DO214AB SMC
pins: 1, 2

## SMCJ33A-TR
designator D?
TVS DIODE 33VWM 69.7VC SMC; Manufacturer: STMicroelectronics; Type: Zener; Unidirectional Channels: 1; Power - Peak Pulse: 1500W (1.5kW); Current - Peak Pulse: 143A (8/20us); Voltage (Clamping): 69.7V; Voltage (Breakdown): 36.7V; Voltage (Reverse Standoff): 33V; Part Number: SMCJ33A-TR; PartId: 14789; Supplier 1: Digi-Key; Supplier Part Number 1: 497-6520-2-ND; ComponentLink1Description: Datasheet; ComponentLink1URL: http://www.st.com/web/en/resource/technical/document/datasheet/CD00001367.pdf; ComponentLink2Description: Digi-Key Listing; ComponentLink2URL: https://www.digikey.com/product-detail/en/stmicroelectronics/SMCJ33A-TR/497-6520-2-ND/1039163; Operating Temperature: -55C ~ 150C (TJ); Price: 0.1519; Device Package: DO-214AB, SMC
footprint ST DO214AB SMC
pins: 1, 2

## SMCJ33CA-TR
designator D?
TVS DIODE 33VWM 69.7VC SMC; Manufacturer: STMicroelectronics; Type: Zener; Bidirectional Channels: 1; Power - Peak Pulse: 1500W (1.5kW); Current - Peak Pulse: 143A (8/20us); Voltage (Clamping): 69.7V; Voltage (Breakdown): 36.7V; Voltage (Reverse Standoff): 33V; Part Number: SMCJ33CA-TR; PartId: 14811; Supplier 1: Digi-Key; Supplier Part Number 1: 497-7899-2-ND; ComponentLink1Description: Datasheet; ComponentLink1URL: http://www.st.com/web/en/resource/technical/document/datasheet/CD00001367.pdf; ComponentLink2Description: Digi-Key Listing; ComponentLink2URL: https://www.digikey.com/product-detail/en/stmicroelectronics/SMCJ33CA-TR/497-7899-2-ND/1039164; Operating Temperature: -55C ~ 150C (TJ); Price: 0.1705; Device Package: DO-214AB, SMC
footprint ST DO214AB SMC
pins: 1, 2

## SMCJ48CA-TR
designator D?
TVS DIODE 48VWM 100VC SMC; Manufacturer: STMicroelectronics; Type: Zener; Bidirectional Channels: 1; Power - Peak Pulse: 1500W (1.5kW); Current - Peak Pulse: 100A (8/20us); Voltage (Clamping): 100V; Voltage (Breakdown): 53.3V; Voltage (Reverse Standoff): 48V; Part Number: SMCJ48CA-TR; PartId: 14814; Supplier 1: Digi-Key; Supplier Part Number 1: 497-6522-2-ND; ComponentLink1Description: Datasheet; ComponentLink1URL: http://www.st.com/web/en/resource/technical/document/datasheet/CD00001367.pdf; ComponentLink2Description: Digi-Key Listing; ComponentLink2URL: https://www.digikey.com/product-detail/en/stmicroelectronics/SMCJ48CA-TR/497-6522-2-ND/1039167; Operating Temperature: -55C ~ 150C (TJ); Price: 0.1705; Device Package: DO-214AB, SMC
footprint ST DO214AB SMC
pins: 1, 2

## SMCJ130CA-TR
designator D?
TVS DIODE 130VWM 265VC SMC; Manufacturer: STMicroelectronics; Type: Zener; Bidirectional Channels: 1; Power - Peak Pulse: 1500W (1.5kW); Current - Peak Pulse: 38A (8/20us); Voltage (Clamping): 265V; Voltage (Breakdown): 144V; Voltage (Reverse Standoff): 130V; Part Number: SMCJ130CA-TR; PartId: 14815; Supplier 1: Digi-Key; Supplier Part Number 1: 497-16191-2-ND; ComponentLink1Description: Datasheet; ComponentLink1URL: http://www.st.com/web/en/resource/technical/document/datasheet/CD00001367.pdf; ComponentLink2Description: Digi-Key Listing; ComponentLink2URL: https://www.digikey.com/product-detail/en/stmicroelectronics/SMCJ130CA-TR/497-16191-2-ND/1039153; Operating Temperature: -55C ~ 150C (TJ); Price: 0.1705; Device Package: DO-214AB, SMC
footprint ST DO214AB SMC
pins: 1, 2

## SMDJ5.0CA
designator D?
TVS DIODE 5VWM 9.2VC SMD; Manufacturer: Littelfuse Inc.; Type: Surface Mount; Power - Peak Pulse: 3000W (3kW); Current - Peak Pulse: 326.1A; Voltage (Clamping): 9.2V; Voltage (Breakdown): 6.4V; Voltage (Reverse Standoff): 5V; Part Number: SMDJ5.0CA; PartId: 7763; Supplier 1: Digi-Key; Supplier Part Number 1: SMDJ5.0CATR-ND; ComponentLink1Description: Datasheet; ComponentLink1URL: http://www.littelfuse.com/~/media/electronics/datasheets/tvs_diodes/littelfuse_tvs_diode_smdj_datasheet.pdf.pdf; ComponentLink2Description: Digi-Key Listing; ComponentLink2URL: http://www.digikey.ca/product-detail/en/SMDJ5.0CA/SMDJ5.0CATR-ND/2024544; Operating Temperature: -55C ~ 150C (TJ); Price: 0.6044; Device Package: DO-214AB, SMC
footprint DO214AB SMC
pins: 1, 2

## SMDJ8.0A
designator D?
TVS DIODE 8VWM 13.6VC SMD; Manufacturer: Littelfuse Inc.; Type: Surface Mount; Power - Peak Pulse: 3000W (3kW); Current - Peak Pulse: 220.6A; Voltage (Clamping): 13.6V; Voltage (Breakdown): 8.89V; Voltage (Reverse Standoff): 8V; Part Number: SMDJ8.0A; PartId: 7767; Supplier 1: Digi-Key; Supplier Part Number 1: SMDJ8.0ATR-ND; ComponentLink1Description: Datasheet; ComponentLink1URL: http://www.littelfuse.com/~/media/electronics/datasheets/tvs_diodes/littelfuse_tvs_diode_smdj_datasheet.pdf.pdf; ComponentLink2Description: Digi-Key Listing; ComponentLink2URL: http://www.digikey.ca/product-detail/en/SMDJ8.0A/SMDJ8.0ATR-ND/2024594; Operating Temperature: -55C ~ 150C (TJ); Price: 0.5441; Device Package: DO-214AB, SMC
footprint DO214AB SMC
pins: 1, 2

## SMF5.0A
designator D?
TVS DIODE 5VWM 9.2VC SOD123; Manufacturer: Littelfuse Inc.; Type: Surface Mount; Power - Peak Pulse: 200W; Current - Peak Pulse: 21.7A; Voltage (Clamping): 9.2V; Voltage (Breakdown): 6.4V; Voltage (Reverse Standoff): 5V; Part Number: SMF5.0A; PartId: 7758; Supplier 1: Digi-Key; Supplier Part Number 1: F5748TR-ND; ComponentLink1Description: Datasheet; ComponentLink1URL: http://www.littelfuse.com/~/media/electronics/datasheets/tvs_diodes/littelfuse_tvs_diode_smf_datasheet.pdf.pdf; ComponentLink2Description: Digi-Key Listing; ComponentLink2URL: http://www.digikey.ca/product-detail/en/SMF5.0A/F5748TR-ND/3429605; Operating Temperature: -55C ~ 150C (TJ); Price: 0.1656; Device Package: SOD-123F
footprint SOD123F
pins: 1, 2

## SMF8.0A-TP
designator D?
TVS DIODE 8VWM 13.6VC SOD-123FL; Manufacturer: Micro Commercial Co; Type: Surface Mount; Power - Peak Pulse: 200W; Current - Peak Pulse: 14.7A; Voltage (Clamping): 13.6V; Voltage (Breakdown): 8.89V; Voltage (Reverse Standoff): 8V; Part Number: SMF8.0A-TP; PartId: 7768; Supplier 1: Digi-Key; Supplier Part Number 1: SMF8.0A-TPMSTR-ND; ComponentLink1Description: Datasheet; ComponentLink1URL: http://www.mccsemi.com/up_pdf/SMF5.0~170(SOD-123FL).pdf; ComponentLink2Description: Digi-Key Listing; ComponentLink2URL: http://www.digikey.ca/product-detail/en/SMF8.0A-TP/SMF8.0A-TPMSTR-ND/4876881; Operating Temperature: -65C ~ 175C (TA); Price: 0.129; Device Package: SOD-123F
footprint SOD123F
pins: 1, 2

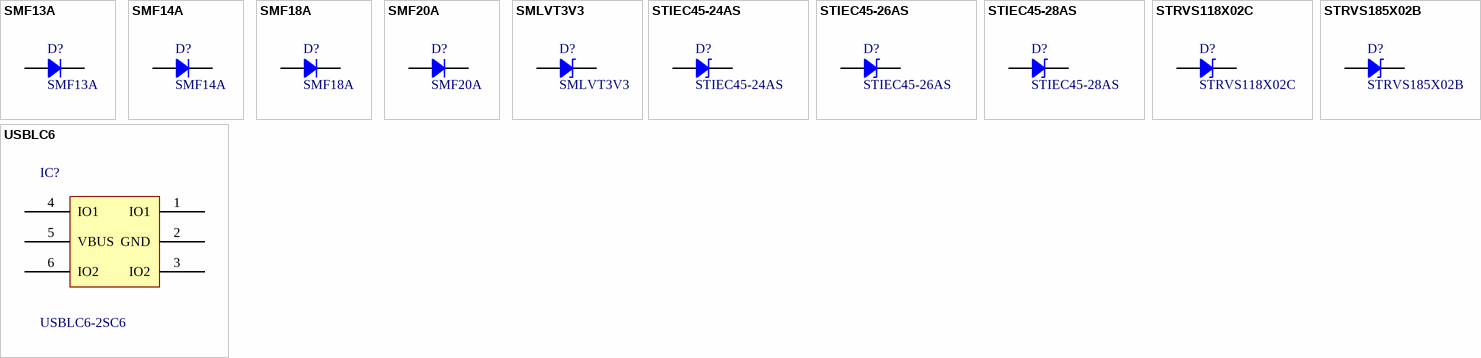
[diagram p9: symbols SMF13A to USBLC6]

## SMF13A
designator D?
TVS DIODE 13VWM 21.5VC SOD123F; Manufacturer: Littelfuse Inc.; Type: Surface Mount; Power - Peak Pulse: 200W; Current - Peak Pulse: 9.3A; Voltage (Clamping): 21.5V; Voltage (Breakdown): 14.4V; Voltage (Reverse Standoff): 13V; Part Number: SMF13A; PartId: 7773; Supplier 1: Digi-Key; Supplier Part Number 1: F5815TR-ND; ComponentLink1Description: Datasheet; ComponentLink1URL: http://www.littelfuse.com/~/media/electronics/datasheets/tvs_diodes/littelfuse_tvs_diode_smf_datasheet.pdf.pdf; ComponentLink2Description: Digi-Key Listing; ComponentLink2URL: http://www.digikey.ca/product-detail/en/SMF13A/F5815TR-ND/3672395; Operating Temperature: -55C ~ 150C (TJ); Price: 0.1656; Device Package: SOD-123F
footprint SOD123F
pins: 1, 2

## SMF14A
designator D?
TVS DIODE 14VWM 23.2VC SOD123F; Manufacturer: Littelfuse Inc.; Type: Surface Mount; Power - Peak Pulse: 200W; Current - Peak Pulse: 8.6A; Voltage (Clamping): 23.2V; Voltage (Breakdown): 15.6V; Voltage (Reverse Standoff): 14V; Part Number: SMF14A; PartId: 7772; Supplier 1: Digi-Key; Supplier Part Number 1: F5816TR-ND; ComponentLink1Description: Datasheet; ComponentLink1URL: http://www.littelfuse.com/~/media/electronics/datasheets/tvs_diodes/littelfuse_tvs_diode_smf_datasheet.pdf.pdf; ComponentLink2Description: Digi-Key Listing; ComponentLink2URL: http://www.digikey.ca/product-detail/en/SMF14A/F5816TR-ND/3672396; Operating Temperature: -55C ~ 150C (TJ); Price: 0.1656; Device Package: SOD-123F
footprint SOD123F
pins: 1, 2

## SMF18A
designator D?
TVS DIODE 18VWM 29.2VC SOD123F; Manufacturer: Littelfuse Inc.; Type: Surface Mount; Power - Peak Pulse: 200W; Current - Peak Pulse: 6.8A; Voltage (Clamping): 29.2V; Voltage (Breakdown): 20V; Voltage (Reverse Standoff): 18V; Part Number: SMF18A; PartId: 7782; Supplier 1: Digi-Key; Supplier Part Number 1: F5820TR-ND; ComponentLink1Description: Datasheet; ComponentLink1URL: http://www.littelfuse.com/~/media/electronics/datasheets/tvs_diodes/littelfuse_tvs_diode_smf_datasheet.pdf.pdf; ComponentLink2Description: Digi-Key Listing; ComponentLink2URL: http://www.digikey.ca/product-detail/en/SMF18A/F5820TR-ND/3672400; Operating Temperature: -55C ~ 150C (TJ); Price: 0.1656; Device Package: SOD-123F
footprint SOD123F
pins: 1, 2

## SMF20A
designator D?
TVS DIODE 20VWM 32.4VC SOD123F; Manufacturer: Littelfuse Inc.; Type: Surface Mount; Power - Peak Pulse: 200W; Current - Peak Pulse: 6.2A; Voltage (Clamping): 32.4V; Voltage (Breakdown): 22.2V; Voltage (Reverse Standoff): 20V; Part Number: SMF20A; PartId: 7781; Supplier 1: Digi-Key; Supplier Part Number 1: F5821TR-ND; ComponentLink1Description: Datasheet; ComponentLink1URL: http://www.littelfuse.com/~/media/electronics/datasheets/tvs_diodes/littelfuse_tvs_diode_smf_datasheet.pdf.pdf; ComponentLink2Description: Digi-Key Listing; ComponentLink2URL: http://www.digikey.ca/product-detail/en/SMF20A/F5821TR-ND/3672401; Operating Temperature: -55C ~ 150C (TJ); Price: 0.1656; Device Package: SOD-123F
footprint SOD123F
pins: 1, 2

## SMLVT3V3
designator D?
TVS DIODE 3.3VWM 10.3VC SMB; Manufacturer: STMicroelectronics; Type: Zener; Unidirectional Channels: 1; Power - Peak Pulse: 600W; Current - Peak Pulse: 200A (8/20us); Voltage (Clamping): 10.3V; Voltage (Breakdown): 4.1V; Voltage (Reverse Standoff): 3.3V; Capacitance @ Frequency: 5200pF @ 1MHz; Part Number: SMLVT3V3; PartId: 14618; Supplier 1: Digi-Key; Supplier Part Number 1: 497-2496-2-ND; ComponentLink1Description: Datasheet; ComponentLink1URL: http://www.st.com/web/en/resource/technical/document/datasheet/CD00000923.pdf; ComponentLink2Description: Digi-Key Listing; ComponentLink2URL: https://www.digikey.com/product-detail/en/stmicroelectronics/SMLVT3V3/497-2496-2-ND/603521; Operating Temperature: -25C ~ 175C (TJ); Price: 0.2247; Device Package: DO-214AA, SMB
footprint ST DO214AA SMB
pins: 1, 2

## STIEC45-24AS
designator D?
TVS DIODE 24VWM 42VC DO214AB; Manufacturer: STMicroelectronics; Type: Zener; Unidirectional Channels: 1; Current - Peak Pulse: 500A (8/20us); Voltage (Clamping): 42V; Voltage (Breakdown): 26.7V; Voltage (Reverse Standoff): 24V; Part Number: STIEC45-24AS; PartId: 14809; Supplier 1: Digi-Key; Supplier Part Number 1: 497-10396-2-ND; ComponentLink1Description: Datasheet; ComponentLink1URL: http://www.st.com/web/en/resource/technical/document/datasheet/CD00258714.pdf; ComponentLink2Description: Digi-Key Listing; ComponentLink2URL: https://www.digikey.com/product-detail/en/stmicroelectronics/STIEC45-24AS/497-10396-2-ND/2236913; Operating Temperature: -55C ~ 150C (TJ); Price: 0.9922; Device Package: DO-214AB, SMC
footprint ST DO214AB SMC
pins: 1, 2

## STIEC45-26AS
designator D?
TVS DIODE 26VWM 45VC DO214AB; Manufacturer: STMicroelectronics; Type: Zener; Unidirectional Channels: 1; Current - Peak Pulse: 500A (8/20us); Voltage (Clamping): 45V; Voltage (Breakdown): 28.9V; Voltage (Reverse Standoff): 26V; Part Number: STIEC45-26AS; PartId: 14808; Supplier 1: Digi-Key; Supplier Part Number 1: 497-10630-2-ND; ComponentLink1Description: Datasheet; ComponentLink1URL: http://www.st.com/web/en/resource/technical/document/datasheet/CD00258714.pdf; ComponentLink2Description: Digi-Key Listing; ComponentLink2URL: https://www.digikey.com/product-detail/en/stmicroelectronics/STIEC45-26AS/497-10630-2-ND/2340638; Operating Temperature: -55C ~ 150C (TJ); Price: 0.8937; Device Package: DO-214AB, SMC
footprint ST DO214AB SMC
pins: 1, 2

## STIEC45-28AS
designator D?
TVS DIODE 28VWM 49VC DO214AB; Manufacturer: STMicroelectronics; Type: Zener; Unidirectional Channels: 1; Current - Peak Pulse: 500A (8/20us); Voltage (Clamping): 49V; Voltage (Breakdown): 31.1V; Voltage (Reverse Standoff): 28V; Part Number: STIEC45-28AS; PartId: 14810; Supplier 1: Digi-Key; Supplier Part Number 1: 497-10632-2-ND; ComponentLink1Description: Datasheet; ComponentLink1URL: http://www.st.com/web/en/resource/technical/document/datasheet/CD00258714.pdf; ComponentLink2Description: Digi-Key Listing; ComponentLink2URL: https://www.digikey.com/product-detail/en/stmicroelectronics/STIEC45-28AS/497-10632-2-ND/2340640; Operating Temperature: -55C ~ 150C (TJ); Price: 0.9922; Device Package: DO-214AB, SMC
footprint ST DO214AB SMC
pins: 1, 2

## STRVS118X02C
designator D?
TVS DIODE 85VWM 118VC SMC; Manufacturer: STMicroelectronics; Type: Zener; Unidirectional Channels: 1; Current - Peak Pulse: 2A (8/20us); Voltage (Clamping): 118V; Voltage (Breakdown): 95V; Voltage (Reverse Standoff): 85V; Part Number: STRVS118X02C; PartId: 14805; Supplier 1: Digi-Key; Supplier Part Number 1: 497-13719-2-ND; ComponentLink1Description: Datasheet; ComponentLink1URL: http://www.st.com/web/en/resource/technical/document/datasheet/DM00070666.pdf; ComponentLink2Description: Digi-Key Listing; ComponentLink2URL: https://www.digikey.com/product-detail/en/stmicroelectronics/STRVS118X02C/497-13719-2-ND/4090258; Operating Temperature: -55C ~ 150C (TJ); Price: 0.4004; Device Package: DO-214AB, SMC
footprint ST DO214AB SMC
pins: 1, 2

## STRVS185X02B
designator D?
TVS DIODE 128VWM 185VC SMB; Manufacturer: STMicroelectronics; Type: Zener; Unidirectional Channels: 1; Current - Peak Pulse: 2A (8/20us); Voltage (Clamping): 185V; Voltage (Breakdown): 143V; Voltage (Reverse Standoff): 128V; Part Number: STRVS185X02B; PartId: 14651; Supplier 1: Digi-Key; Supplier Part Number 1: 497-13722-2-ND; ComponentLink1Description: Datasheet; ComponentLink1URL: http://www.st.com/web/en/resource/technical/document/datasheet/DM00070666.pdf; ComponentLink2Description: Digi-Key Listing; ComponentLink2URL: https://www.digikey.com/product-detail/en/stmicroelectronics/STRVS185X02B/497-13722-2-ND/4090259; Operating Temperature: -55C ~ 150C (TJ); Price: 0.2216; Device Package: DO-214AA, SMB
footprint ST DO214AA SMB
pins: 1, 2

## USBLC6
designator IC?, comment USBLC6-2SC6
IC TVS ESD 5.25V 12V SOT23-6; Manufacturer: ST Microelectronics; Function: Very low capacitance ESD protection; Output Configuration: Positive or Negative; Number Of Outputs: 2; Current Output: 1A; Frequency - Switching: 1GHz; Breakdown voltage VBUS vs GND (Min): 6V; Forward voltage: 1.1V; Capacitance between I/O: 1.7pF; Capacitance between I/O  and GND: 3.5pF; Part Number: USBLC6-2SC6; PartId: 9372; Supplier 1: Digi-Key; Supplier Part Number 1: 497-5235-2-ND; ComponentLink1Description: Datasheet; ComponentLink1URL: http://www.st.com/content/ccc/resource/technical/document/datasheet/06/1d/48/9c/6c/20/4a/b2/CD00050750.pdf/files/CD00050750.pdf/jcr:content/translations/en.CD00050750.pdf; ComponentLink2Description: Digi-Key Listing; ComponentLink2URL: https://www.digikey.com/products/en/circuit-protection/tvs-diodes/144?k=USBLC6&k=&pkeyword=USBLC6&sv=0&pv1291=56&sf=0&FV=ii2%7C1729%2Cffe00090&quantity=&ColumnSort=0&page=1&pageSize=25; Device Package: SOT23-6; Price: 0.29; Series: -; Operating Temperature: -40C ~ 125C (TJ); Clamping voltage: 12V
pins: 1 IO1, 2 GND, 3 IO2, 4 IO1, 5 VBUS, 6 IO2